# EAGLE library part TPS61032 (library MTS-OTR_Custom)
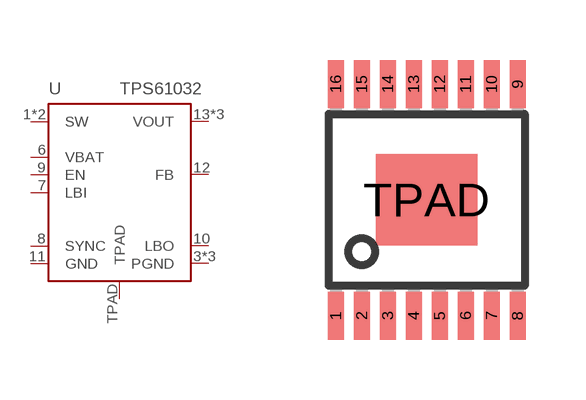
[diagram p5: symbol with the pads of TPS61032; footprint TPS61032]

Designator prefix -

## TPS61032  [TPS61032]
1  SW  in
2  SW  in
3  PGND  pas
4  PGND  pas
5  PGND  pas
6  VBAT  in
7  LBI  in
8  SYNC  in
9  EN  in
10  LBO  pas
11  GND  pwr
12  FB  in
13  VOUT  pas
14  VOUT  pas
15  VOUT  pas
TPAD  TPAD  pwr

## Footprint TPS61032 (pad centres in mm)
smd 0.4 x 1.2: 1 -2.275,-2.9; 2 -1.625,-2.9; 3 -0.975,-2.9; 4 -0.325,-2.9; 5 0.325,-2.9; 6 0.975,-2.9; 7 1.625,-2.9; 8 2.275,-2.9; 9 2.275,2.9; 10 1.625,2.9; 11 0.975,2.9; 12 0.325,2.9; 13 -0.325,2.9; 14 -0.975,2.9; 15 -1.625,2.9; 16 -2.275,2.9
smd 2.54 x 2.286: TPAD 0,0